# EAGLE library part 24HJ128GP502 (library custom)
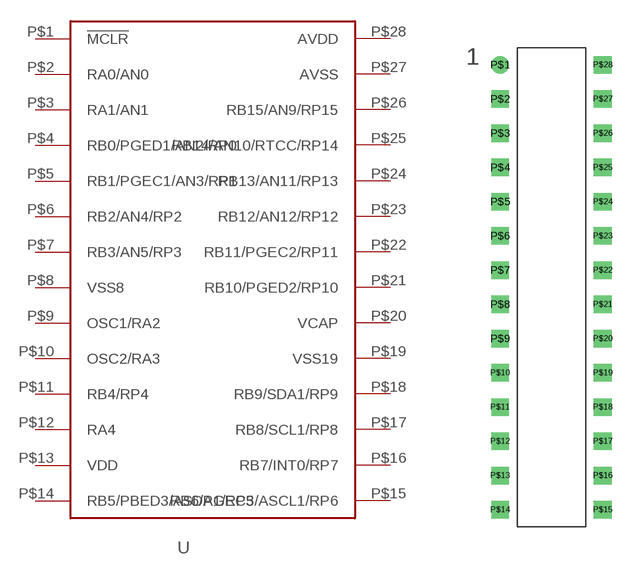
[diagram p38: symbol with the pads of SPDIP28_300; footprint SPDIP28_300]

Designator prefix -

## 24HJ128GP502  [SPDIP28_300]
P$1  !MCLR
P$2  RA0/AN0
P$3  RA1/AN1
P$4  RB0/PGED1/AN2/RP0
P$5  RB1/PGEC1/AN3/RP1
P$6  RB2/AN4/RP2
P$7  RB3/AN5/RP3
P$8  VSS8
P$9  OSC1/RA2
P$10  OSC2/RA3
P$11  RB4/RP4
P$12  RA4
P$13  VDD
P$14  RB5/PBED3/ASDA1/RP5
P$15  RB6/PGEC3/ASCL1/RP6
P$16  RB7/INT0/RP7
P$17  RB8/SCL1/RP8
P$18  RB9/SDA1/RP9
P$19  VSS19
P$20  VCAP
P$21  RB10/PGED2/RP10
P$22  RB11/PGEC2/RP11
P$23  RB12/AN12/RP12
P$24  RB13/AN11/RP13
P$25  RB14/AN10/RTCC/RP14
P$26  RB15/AN9/RP15
P$27  AVSS
P$28  AVDD

## Footprint SPDIP28_300 (pad centres in mm)
drill 0.8 round: P$1 -3.81,16.51
drill 0.8 square: P$2 -3.81,13.97; P$3 -3.81,11.43; P$4 -3.81,8.89; P$5 -3.81,6.35; P$6 -3.81,3.81; P$7 -3.81,1.27; P$8 -3.81,-1.27; P$9 -3.81,-3.81; P$10 -3.81,-6.35; P$11 -3.81,-8.89; P$12 -3.81,-11.43; P$13 -3.81,-13.97; P$14 -3.81,-16.51; P$15 3.81,-16.51; P$16 3.81,-13.97; P$17 3.81,-11.43; P$18 3.81,-8.89; P$19 3.81,-6.35; P$20 3.81,-3.81; P$21 3.81,-1.27; P$22 3.81,1.27; P$23 3.81,3.81; P$24 3.81,6.35; P$25 3.81,8.89; P$26 3.81,11.43; P$27 3.81,13.97; P$28 3.81,16.51